# Altium footprint library KXO-V97T.PcbLib: 1 footprints
Each footprint in its own frame and in the unit in brackets; x right, y up, seen from the top. Pads: shape width x height; smd on the part's side, far side on the other; paste and mask are expansions set on the pad; w line width, h text height; cw(c..) or ccw(c..) is an arc to the next point about the centre after c.
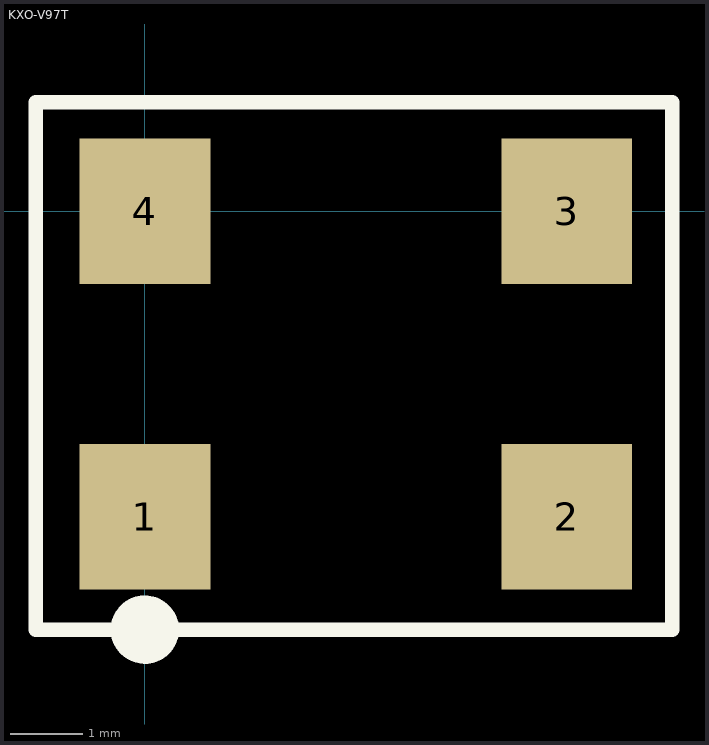
[diagram p0: the footprint, top view; thin cyan lines are the x and y axes]

## KXO-V97T [mm]
pads (4):
  rect 1.8x2 smd: 1(0,-4.2) 2(5.8,-4.2) 3(5.8,0) 4(0,0)
Top Overlay:
  circle w0.5: c0,-5.75 r0.22
  lines w0.2: -1.5,-5.75 7.25,-5.75 7.25,1.5 -1.5,1.5 -1.5,-5.75
3D body: height 1.3, standoff 0, extent -0.575,-4.565 6.425,0.515